# EAGLE library part ORANGEPIZERO-MHO (library Embedded > SBC)
It’s an open-source single-board computer. It can run Android 4.4, Ubuntu, Debian. It uses the AllWinner H2 SoC, and has 256MB/512MB DDR3 SDRAM(256MB version is Standard version
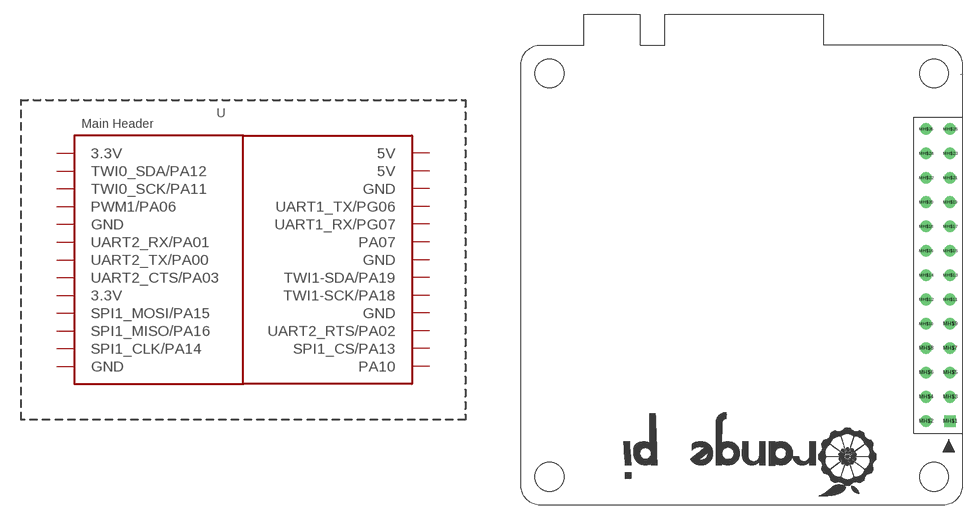
[diagram p3: symbol with the pads of ORANGEPIZERO-MHO; footprint ORANGEPIZERO-MHO]

Designator prefix U

## ORANGEPIZERO-MHO  [ORANGEPIZERO-MHO]
MH$1  3.3V
MH$2  5V
MH$3  TWI0_SDA/PA12
MH$4  5V
MH$5  TWI0_SCK/PA11
MH$6  GND
MH$7  PWM1/PA06
MH$8  UART1_TX/PG06
MH$9  GND
MH$10  UART1_RX/PG07
MH$11  UART2_RX/PA01
MH$12  PA07
MH$13  UART2_TX/PA00
MH$14  GND
MH$15  UART2_CTS/PA03
MH$16  TWI1-SDA/PA19
MH$17  3.3V
MH$18  TWI1-SCK/PA18
MH$19  SPI1_MOSI/PA15
MH$20  GND
MH$21  SPI1_MISO/PA16
MH$22  UART2_RTS/PA02
MH$23  SPI1_CLK/PA14
MH$24  SPI1_CS/PA13
MH$25  GND
MH$26  PA10

## Footprint ORANGEPIZERO-MHO (pad centres in mm)
It’s an open-source single-board computer. It can run Android 4.4, Ubuntu, Debian. It uses the AllWinner H2 SoC, and has 256MB/512MB DDR3 SDRAM(256MB version is Standard version
drill 0.7 square: MH$1 21.75,-15.24
drill 0.7: MH$2 19.24,-15.24; MH$3 21.75,-12.7; MH$4 19.24,-12.7; MH$5 21.75,-10.16; MH$6 19.24,-10.16; MH$7 21.75,-7.62; MH$8 19.24,-7.62; MH$9 21.75,-5.08; MH$10 19.24,-5.08; MH$11 21.75,-2.54; MH$12 19.24,-2.54; MH$13 21.75,0; MH$14 19.24,0; MH$15 21.75,2.54; MH$16 19.24,2.54; MH$17 21.75,5.08; MH$18 19.24,5.08; MH$19 21.75,7.62; MH$20 19.24,7.62; MH$21 21.75,10.16; MH$22 19.24,10.16; MH$23 21.75,12.7; MH$24 19.24,12.7; MH$25 21.75,15.24; MH$26 19.24,15.24
hole 3 at -20.055,-21.055
hole 3 at 20.055,-21.055
hole 3 at -20.055,21.055
hole 3 at 20.055,21.055